# Altium schematic symbol library 961102-6404-AR.SchLib: 1 symbol
Pins are listed as number, name and electrical type; pins without a type are passive.

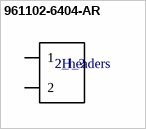
[diagram p0: symbol 961102-6404-AR]

## 961102-6404-AR
designator 2H_?, comment 2_headers
BOARD TO BOARD, HEADER, 2POS, 1ROW; Series: 961; Pitch Spacing: 2.54mm; No. of Row; MF: 3M; MP: 961102-6404-AR; Package: None; Digi-Key_Purchase_URL: https://www.digikey.com/product-detail/en/3m/961102-6404-AR/3M9457-02-ND/7104633?utm_source=snapeda&utm_medium=aggregator&utm_campaign=symbol; SnapEDA_Link: https://www.snapeda.com/parts/961102-6404-AR/3M%20%28TC%29/view-part/?ref=snap; Digi-Key_Part_Number: 3M9457-02-ND; Value: *
footprint 3M_961102-6404-AR
pins: 1, 2